# Altium schematic symbol library CAP 0.22uF 50V RADIAL.Schlib: 1 symbol
Pins are listed as number, name and electrical type; pins without a type are passive.

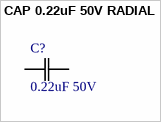
[diagram p0: symbol CAP 0.22uF 50V RADIAL]

## CAP 0.22uF 50V RADIAL
designator C?, comment 0.22uF 50V
CAP CER 0.22UF 50V X7R RADIAL; Tolerance: 10%; Package: Through Hole Radial; Value: 0.22 uF; Rating: 50V; ComponentLink1Description: digikey; ComponentLink1URL: https://www.digikey.ca/product-detail/en/kemet/C317C221K2G5TA7301/399-13974-1-ND/6562545; Temperature coefficient: X7R; Dimensions: 0.200" L x 0.125" W (5.08mm x 3.18mm); Operating temperature: -55°C ~ 125°C
footprint 0.22uF Thru hole
pins: 1 C1, 2 C2